# Altium integrated library M64W503KB40.IntLib: 1 symbol
Pins are listed as number, name and electrical type; pins without a type are passive.

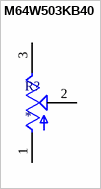
[diagram p0: symbol M64W503KB40]

## M64W503KB40
designator R?
50 kOhms 0.5W, 1/2W PC Pins Through Hole Trimmer Potentiometer Cermet 21.0 Turn Top Adjustment; MF: Vishay; MP: M64W503KB40; SnapEDA_Link: https://www.snapeda.com/parts/M64W503KB40/Vishay+Spectrol/view-part/?ref=snap; Package: TSOP-34836 Vishay; Value: *; Check_prices: https://www.snapeda.com/parts/M64W503KB40/Vishay+Spectrol/view-part/?ref=eda
footprint SIP460W50P254L970H980Q3P
pins: 1 A, 2 B, 3 C